# EAGLE library part MC34161 (library C3-ONSemi)
Universal Voltage Monitors
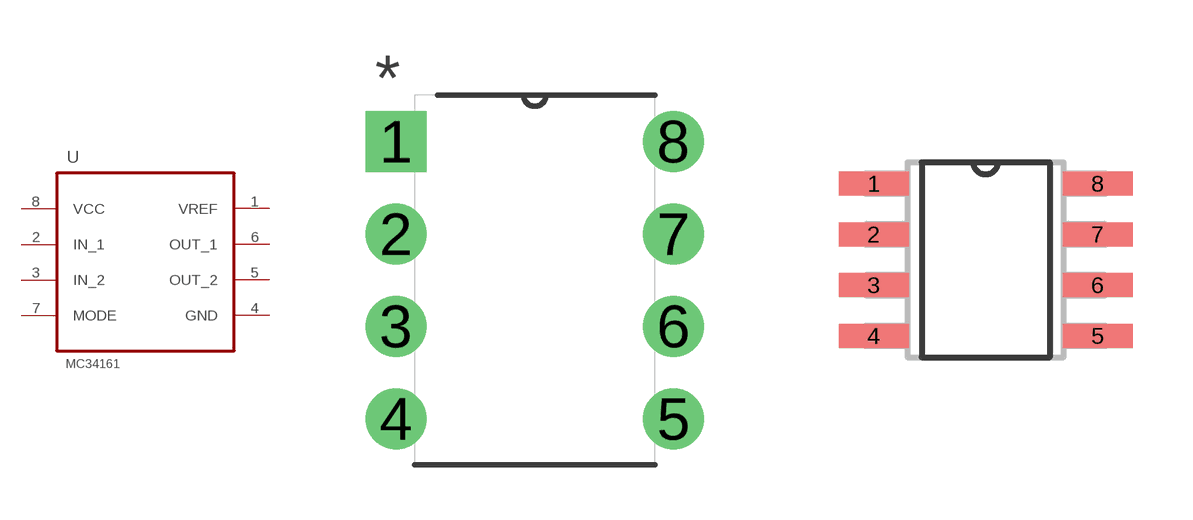
[diagram p0: symbol with the pads of DIP254P762X445-8; footprints DIP254P762X445-8, SOIC8-N]

Designator prefix U

## MC34161PG  [DIP254P762X445-8]
1  VREF  out
2  IN_1  in
3  IN_2  in
4  GND  pwr
5  OUT_2  out
6  OUT_1  out
7  MODE  in
8  VCC  pwr

## MC34161DG  [SOIC8-N]
Pads as for DIP254P762X445-8

## Footprint DIP254P762X445-8 (pad centres in mm)
drill 1.118 square: 1 -7.62,7.62
drill 1.118: 2 -7.62,5.08; 3 -7.62,2.54; 4 -7.62,0; 5 0,0; 6 0,2.54; 7 0,5.08; 8 0,7.62

## Footprint SOIC8-N (pad centres in mm)
SOIC-8 Narrow
smd 1.75 x 0.6: 1 -2.8,1.905; 2 -2.8,0.635; 3 -2.8,-0.635; 4 -2.8,-1.905; 5 2.8,-1.905; 6 2.8,-0.635; 7 2.8,0.635; 8 2.8,1.905